# EAGLE library part SCU-W0822XR-06 (library con-sim)
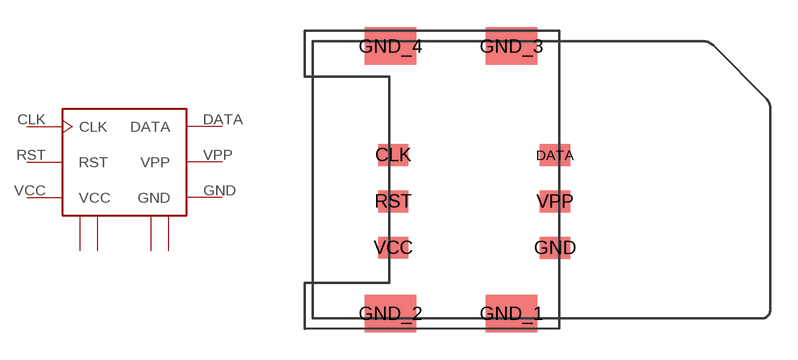
[diagram p0: symbol with the pads of SCU-W0822XR-06; footprint SCU-W0822XR-06]

Designator prefix -

## SCU-W0822XR-06  [SCU-W0822XR-06]
CLK  CLK  in
DATA  DATA
GND  GND  pwr
GND_1  GND1  pwr
GND_2  GND2  pwr
GND_3  GND3  pwr
GND_4  GND4  pwr
RST  RST  in
VCC  VCC  pwr
VPP  VPP  pwr

## Footprint SCU-W0822XR-06 (pad centres in mm)
smd 1.65 x 1.2: CLK -4.42,1.36; DATA 4.43,1.35; GND 4.43,-3.73; RST -4.42,-1.18; VCC -4.42,-3.72; VPP 4.43,-1.19
smd 2.8 x 2.05: GND_1 2.05,-7.32; GND_2 -4.57,-7.32; GND_3 2.05,7.32; GND_4 -4.57,7.32